# Altium integrated library RS_other.IntLib: 8 symbols
Pins are listed as number, name and electrical type; pins without a type are passive.

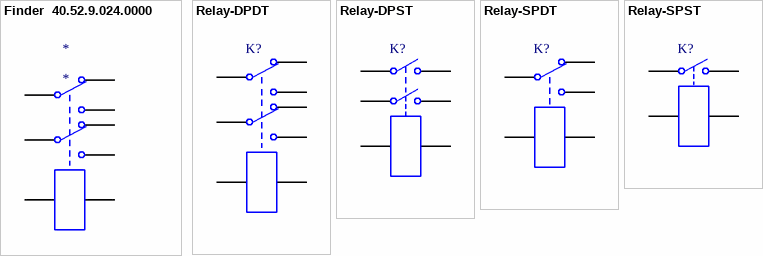
[diagram p0: symbols Finder  40.52.9.024.0000 to Relay-SPST]

## Finder  40.52.9.024.0000
designator *
footprint Finder  40.52.9.024.0000
pins: 1, 2, 3, 4, 5, 6, 7, 8

## Relay-DPDT
designator K?
Dual-Pole Dual-Throw Relay; Published: 24-Mar-1999; LatestRevisionDate: 17-Jul-2002; LatestRevisionNote: Re-released for DXP Platform.; PackageReference: DIP-P8; Publisher: Altium Limited; PackageDescription: Relay; 8 Leads
footprint DIP-P8 (Dual-Pole Dual-Throw Relay; 8 Leads)
simulation model DPDTRELAY (Spice Subcircuit)
footprint N4078 (JRC-19F)
pins: 1, 2, 3, 4, 5, 6, 7, 8

## Relay-DPST
designator K?
Dual-Pole Single-Throw Relay; Published: 24-Mar-1999; LatestRevisionDate: 17-Jul-2002; LatestRevisionNote: Re-released for DXP Platform.; PackageReference: MODULE6; Publisher: Altium Limited
footprint MODULE6 (DIP; 6 Round Pins; Row Space 20.32 mm; Pitch 2.54 mm)
simulation model DPSTRELAY (Spice Subcircuit)
pins: 1, 2, 3, 4, 5, 6

## Relay-SPDT
designator K?
Single-Pole Dual-Throw Relay; Published: 24-Mar-1999; LatestRevisionDate: 17-Jul-2002; LatestRevisionNote: Re-released for DXP Platform.; PackageReference: MODULE5B; Publisher: Altium Limited
footprint MODULE5B (DIP; 5 Round Pins; Row Space 15.24 mm; Pitch 2.54 mm)
simulation model SPDTRELAY (Spice Subcircuit)
pins: 1, 2, 3, 4, 5

## Relay-SPST
designator K?
Single-Pole Single-Throw Relay; Published: 24-Mar-1999; LatestRevisionDate: 17-Jul-2002; LatestRevisionNote: Re-released for DXP Platform.; PackageReference: MODULE4; Publisher: Altium Limited
footprint MODULE4 (DIP; 4 Round Pins; Row Space 27.94 mm; Pitch 15.24 mm)
simulation model SPSTRELAY (Spice Subcircuit)
pins: 1, 2, 3, 4


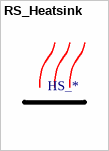
[diagram p1: symbol RS_Heatsink]

## RS_Heatsink
designator HS_*
footprint RS_heatsink_HS135A


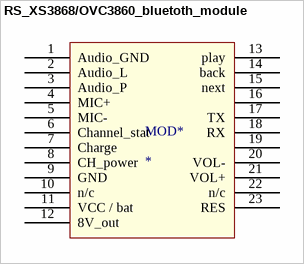
[diagram p2: symbol RS_XS3868/OVC3860_bluetoth_module]

## RS_XS3868/OVC3860_bluetoth_module
designator MOD*
footprint RS_BT_audio_module
pins: 1 Audio_GND, 2 Audio_L, 3 Audio_P, 4 MIC+, 5 MIC-, 6 Channel_stat, 7 Charge, 8 CH_power, 9 GND, 10 n/c, 11 VCC / bat, 12 8V_out, 13 play, 14 back, 15 next, 16, 17 TX, 18 RX, 19, 20 VOL-, 21 VOL+, 22 n/c, 23 RES


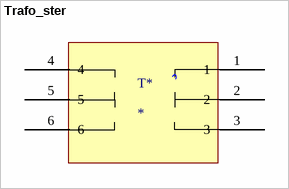
[diagram p3: symbol Trafo_ster]

## Trafo_ster
designator T*
footprint Trafo_ster
pins: 1, 2, 3, 4, 5, 6